# Altium schematic symbol library AH478.SchLib: 1 symbol
Pins are listed as number, name and electrical type; pins without a type are passive.

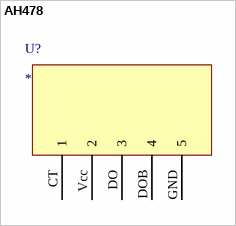
[diagram p0: symbol AH478]

## AH478
designator U?
pins: CT 1, DO 3, DOB 4, GND 5 (power), Vcc 2 (power)